# Altium footprint library DPAK_SMD.PcbLib: 19 footprints (part 2 of 2)
Each footprint in its own frame and in the unit in brackets; x right, y up, seen from the top. Pads: shape width x height; smd on the part's side, far side on the other; paste and mask are expansions set on the pad; w line width, h text height; cw(c..) or ccw(c..) is an arc to the next point about the centre after c.
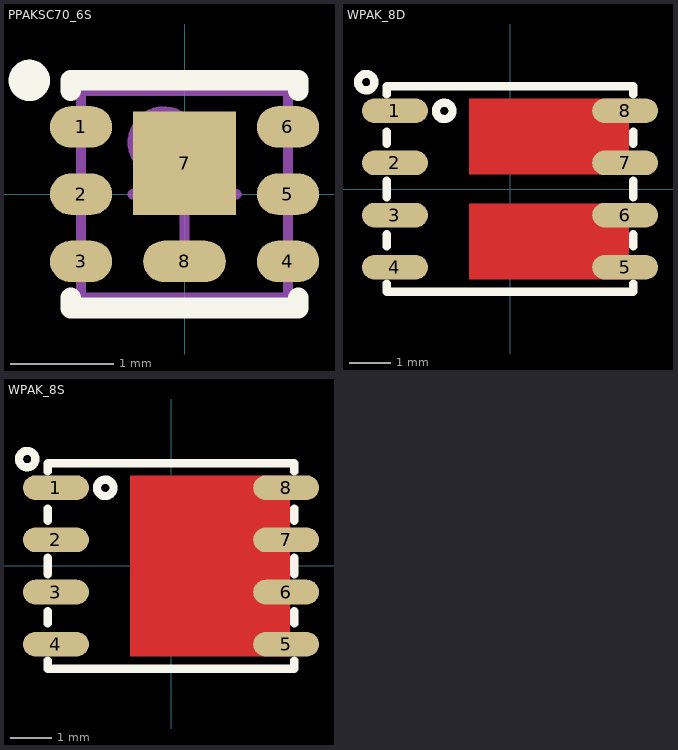
[diagram p1: the footprints below, top view; thin cyan lines are the x and y axes]

## PPAKSC70_6S [mm] "PowerPAK SC-70-6 SINGLE, MicroFET 2X2 Pitch: 0.65mm 2x2x1.1mm with 2 Thermal pad"
height 1.1
pads (8):
  oval 0.6x0.4 smd mask+0.075: 1(-1,0.65) 2(-1,0) 3(-1,-0.65) 4(1,-0.65) 5(1,0) 6(1,0.65)
  rect 1x1 smd mask+0.075: 7(0,0.3)
  oval 0.8x0.4 smd: 8(0,-0.65)
Top Overlay:
  circle w0.2: c-1.5,1.1 r0.1
  lines w0.2: -1.1,-1 -1.1,-1.1 1.1,-1.1 1.1,-1 ; -1.1,1 -1.1,1.1 1.1,1.1 1.1,1
Mechanical 13:
  circle w0.1: c-0.2,0.5 r0.3
  lines w0.1: -1,-1 -1,1 1,1 1,-1 -1,-1
Mechanical 15:
  lines w0.1: -0.5,0 0.5,0 ; 0,-0.5 0,0.5
3D body "User Library-SC70-6L.step": height 0.75, standoff -0.03, extent -1.025,-1.025 1.025,1.025

## WPAK_8D [mm] "WPAK, POWERPAK SO-8 1.27mm pitch Dual"
height 1.8
pads (8):
  oval 1.6x0.6 smd: 1(-2.8,1.905) 2(-2.8,0.635) 3(-2.8,-0.635) 4(-2.8,-1.905) 5(2.8,-1.905) 6(2.8,-0.635) 7(2.8,0.635) 8(2.8,1.905)
Top Layer:
  region: -1,2.2 -1,0.35 2.9,0.35 2.9,2.2
  region: 2.9,-2.2 2.9,-0.35 -1,-0.35 -1,-2.2
Top Overlay:
  circle w0.2: c-1.6,1.9 r0.2
  circle w0.2: c-3.5,2.6 r0.2
  lines w0.2: -3,-2.3 -3,-2.5 3,-2.5 3,-2.3 ; -3,-1.4 -3,-1.1 ; -3,-0.2 -3,0.2 ; -3,1.1 -3,1.4 ; -3,2.3 -3,2.5 3,2.5 3,2.3 ; 3,-1.4 3,-1.1 ; 3,-0.2 3,0.2 ; 3,1.1 3,1.4
Top Solder:
  region: -1.1,2.3 -1.1,0.25 2.9,0.25 2.9,2.3
  region: 2.9,-2.3 2.9,-0.25 -1.1,-0.25 -1.1,-2.3
3D body "User Library-PowerPAK SO-8 (D).step": height 1.04, standoff 0, extent -3.075,-2.575 3.075,2.575

## WPAK_8S [mm] "WPAK, POWERPAK SO-8 1.27mm pitch Single"
height 1.8
pads (8):
  oval 1.6x0.6 smd: 1(-2.8,1.905) 2(-2.8,0.635) 3(-2.8,-0.635) 4(-2.8,-1.905) 5(2.8,-1.905) 6(2.8,-0.635) 7(2.8,0.635) 8(2.8,1.905)
Top Layer:
  region: -1,2.2 -1,-2.2 2.9,-2.2 2.9,2.2
Top Overlay:
  circle w0.2: c-3.5,2.6 r0.2
  circle w0.2: c-1.6,1.9 r0.2
  lines w0.2: -3,-2.3 -3,-2.5 3,-2.5 3,-2.3 ; -3,-1.4 -3,-1.1 ; -3,-0.2 -3,0.2 ; -3,1.1 -3,1.4 ; -3,2.3 -3,2.5 3,2.5 3,2.3 ; 3,-1.4 3,-1.1 ; 3,-0.2 3,0.2 ; 3,1.1 3,1.4
Top Solder:
  region: -1.1,2.3 -1.1,-2.3 2.9,-2.3 2.9,2.3
3D body "User Library-PowerPAK SO-8 (S).step": height 1.04, standoff 0, extent -3.075,-2.575 3.075,2.575